# EAGLE library part LMR16006XDDCR (library shrew-core)
Check availability <https://pricing.snapeda.com/parts/LMR16006XDDCR/Texas%20Instruments/view-part?ref=eda>
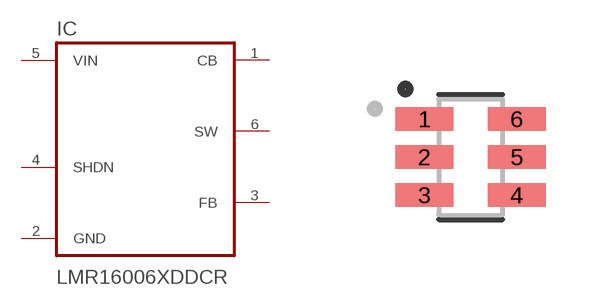
[diagram p5: symbol with the pads of SOT95P280X110-6N; footprint SOT95P280X110-6N]

Designator prefix IC

## LMR16006XDDCR (AVAILABILITY: In Stock; CHECK_PRICES: https://www.snapeda.com/parts/LMR16006XDDCR/Texas+Instruments/view-part/?ref=eda; DESCRIPTION: SIMPLE SWITCHER&reg; 4V to 60V, 600mA Step-Down Regulator with Low Iq; MF: Texas Instruments; MP: LMR16006XDDCR; PACKAGE: SOT-23-THN-6 Texas Instruments; PRICE: None; SNAPEDA_LINK: https://www.snapeda.com/parts/LMR16006XDDCR/Texas+Instruments/view-part/?ref=snap)  [SOT95P280X110-6N]
1  CB
2  GND  pwr
3  FB
4  SHDN
5  VIN  in
6  SW

## Footprint SOT95P280X110-6N (pad centres in mm)
smd 1.45 x 0.59: 1 -1.155,0.95; 2 -1.155,0; 3 -1.155,-0.95; 4 1.155,-0.95; 5 1.155,0; 6 1.155,0.95